# Altium footprint library GuitarLibrary.PcbLib: 18 footprints (part 2 of 2)
Each footprint in its own frame and in the unit in brackets; x right, y up, seen from the top. Pads: shape width x height; smd on the part's side, far side on the other; paste and mask are expansions set on the pad; w line width, h text height; cw(c..) or ccw(c..) is an arc to the next point about the centre after c.
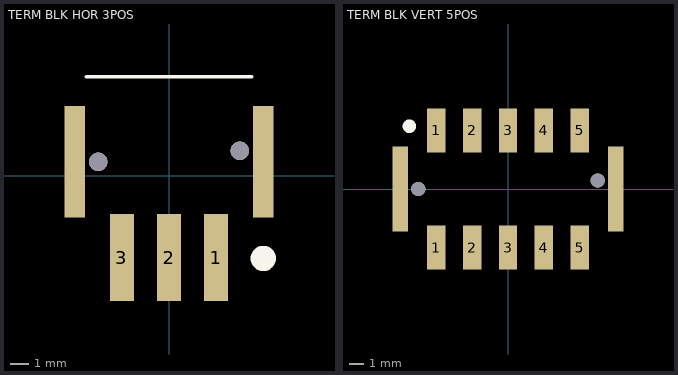
[diagram p1: the footprints below, top view; thin cyan lines are the x and y axes]

## TERM BLK HOR 3POS [mm] "3 Position Wire to Board Terminal Block Horizontal with Board 0.100\" (2.54mm) Surface Mount"
pads (7):
  rect 1.3x4.7 smd: 1(2.54,-4.4) 2(0,-4.4) 3(-2.54,-4.4)
  rect 1.1x6 smd: ""(-5.08,0.75) ""(5.08,0.75)
  round 1 hole 1 mask+0: ""(-3.81,0.75) ""(3.81,1.35)
Top Overlay:
  circle w1: c5.08,-4.445 r0.18
  lines w0.2: -4.445,5.334 4.445,5.334
3D body "14010313102000_100540057MOD000A.STP": height 4.95, standoff -0.95, extent -6.155,-6.216 6.155,5.334

## TERM BLK VERT 5POS [mm] "5 Position Wire to Board Terminal Block Vertical with Board 0.100\" (2.54mm) Surface Mount"
pads (14):
  rect 1.3x3.1 smd: 1(-5.08,-4.15) 1(-5.08,4.15) 2(-2.54,-4.15) 2(-2.54,4.15) 3(0,-4.15) 3(0,4.15) 4(2.54,-4.15) 4(2.54,4.15) 5(5.08,-4.15) 5(5.08,4.15)
  rect 1.1x6 smd: ""(-7.62,0) ""(7.62,0)
  round 1 hole 1 unplated mask+0: ""(-6.35,0) ""(6.35,0.6)
Top Overlay:
  circle w0.7: c-6.985,4.445 r0.127
3D body: height 8.83, standoff 2.23, extent 0,0 0,0
3D body "14010513101000_100548419MOD000B.STP": height 9.59, standoff -0.61, extent -8.695,-5.21 8.695,5.21